# Altium integrated library 885012205037.IntLib: 1 symbol
Pins are listed as number, name and electrical type; pins without a type are passive.

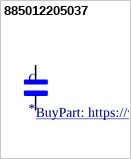
[diagram p0: symbol 885012205037]

## 885012205037
designator C
WCAP-CSGP General Purpose MLCC; SMT 0402; X7R; 100nF 10%; 16V; -55C to +125C; Tech. PN X7R0402104K016DFCT10000; MF: Wurth Electronics Inc; MP: 885012205037; Price: None; Mouser-Purchase-URL: https://snapeda.com/shop?store=Mouser&id=4217417; Package: 0402 Wurth Electronics; DigiKey-Purchase-URL: https://snapeda.com/shop?store=DigiKey&id=4217417; Availability: Warning; Value: *; SnapEDA_Link: https://www.snapeda.com/parts/885012205037/Wurth%20Electronics%20Inc/view-part/4217417/?ref=snap; BuyPart: https://www.snapeda.com/parts/885012205037/Wurth%20Electronics%20Inc/view-part/4217417/?ref=eda
footprint WCAP-CSGP_885012205037
pins: 1, 2